# Altium integrated library ST Interface Line Transceiver.IntLib: 81 symbols (part 2 of 2)
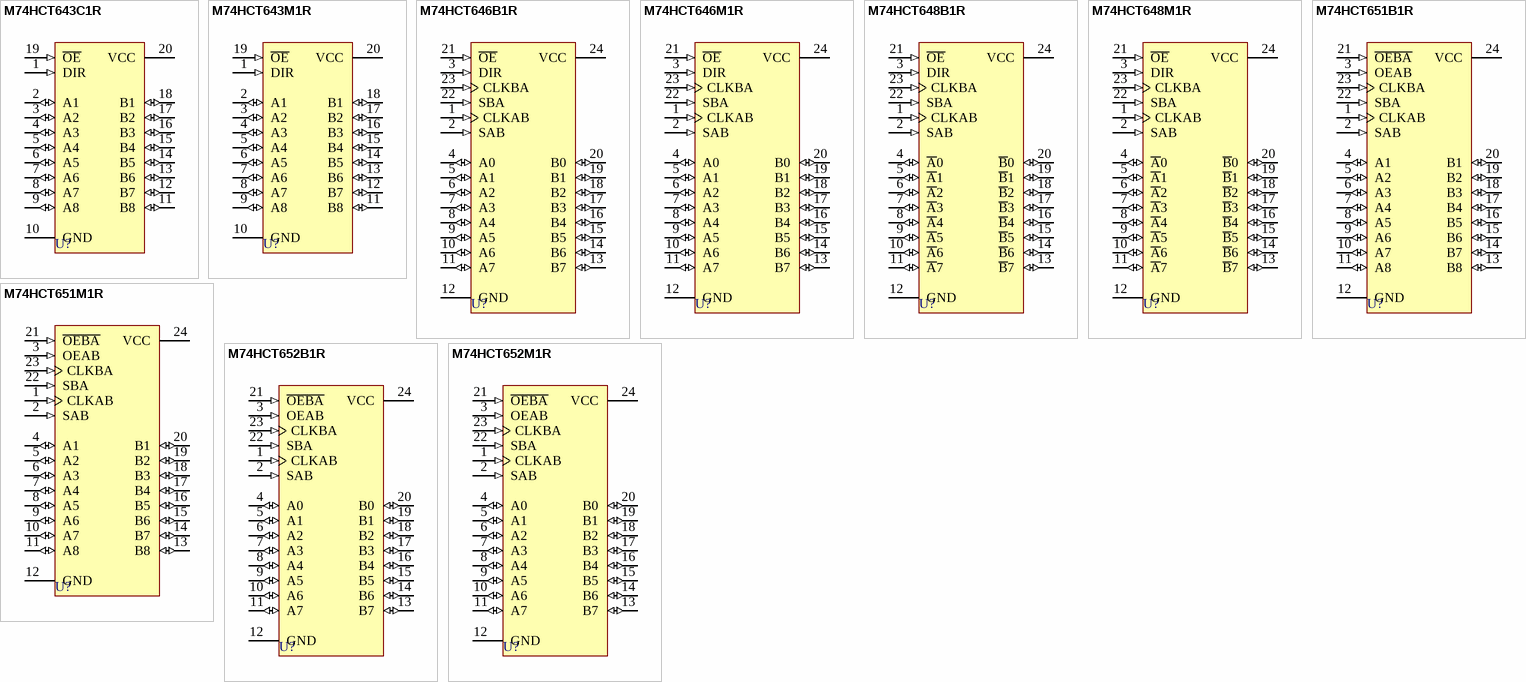
[diagram p3: symbols M74HCT643C1R to M74HCT652M1R]

## M74HCT646M1R
designator U?
Octal Bus Transceiver/Register 3-State; Published: 8-Jun-2000; LatestRevisionDate: 17-Jul-2002; LatestRevisionNote: Re-released for DXP Platform.; DatasheetDocument: Oct-1993; PackageDocument: Oct-2001; PackageReference: SO24; Publisher: Altium Limited; Code_IPC: SO24W
footprint SO24 (Small Outline, Plastic; 24 Leads; Body Width 7.5 mm; Pitch 1.27 mm)
signal-integrity model M74HCT646M1R
pins: 1 CLKAB (in), 2 SAB (in), 3 DIR (in), 4 A0 (io), 5 A1 (io), 6 A2 (io), 7 A3 (io), 8 A4 (io), 9 A5 (io), 10 A6 (io), 11 A7 (io), 12 GND (power), 13 B7 (io), 14 B6 (io), 15 B5 (io), 16 B4 (io), 17 B3 (io), 18 B2 (io), 19 B1 (io), 20 B0 (io), 21 ~{OE} (in), 22 SBA (in), 23 CLKBA (in), 24 VCC (power)

## M74HCT648B1R
designator U?
Octal Bus Transceiver/Register 3-State Inverting; Published: 8-Jun-2000; LatestRevisionDate: 17-Jul-2002; LatestRevisionNote: Re-released for DXP Platform.; DatasheetDocument: Oct-1993; PackageDocument: Jan-1995; PackageReference: PDIP24; Publisher: Altium Limited
footprint PDIP24 (DIP; 24 Leads; Row Spacing 15.24 mm; Pitch 2.54 mm)
signal-integrity model M74HCT648B1R
pins: 1 CLKAB (in), 2 SAB (in), 3 DIR (in), 4 ~{A}0 (io), 5 ~{A}1 (io), 6 ~{A}2 (io), 7 ~{A}3 (io), 8 ~{A}4 (io), 9 ~{A}5 (io), 10 ~{A}6 (io), 11 ~{A}7 (io), 12 GND (power), 13 ~{B}7 (io), 14 ~{B}6 (io), 15 ~{B}5 (io), 16 ~{B}4 (io), 17 ~{B}3 (io), 18 ~{B}2 (io), 19 ~{B}1 (io), 20 ~{B}0 (io), 21 ~{OE} (in), 22 SBA (in), 23 CLKBA (in), 24 VCC (power)

## M74HCT648M1R
designator U?
Octal Bus Transceiver/Register 3-State Inverting; Published: 8-Jun-2000; LatestRevisionDate: 17-Jul-2002; LatestRevisionNote: Re-released for DXP Platform.; DatasheetDocument: Oct-1993; PackageDocument: Oct-2001; PackageReference: SO24; Publisher: Altium Limited; Code_IPC: SO24W
footprint SO24 (Small Outline, Plastic; 24 Leads; Body Width 7.5 mm; Pitch 1.27 mm)
signal-integrity model M74HCT648M1R
pins: 1 CLKAB (in), 2 SAB (in), 3 DIR (in), 4 ~{A}0 (io), 5 ~{A}1 (io), 6 ~{A}2 (io), 7 ~{A}3 (io), 8 ~{A}4 (io), 9 ~{A}5 (io), 10 ~{A}6 (io), 11 ~{A}7 (io), 12 GND (power), 13 ~{B}7 (io), 14 ~{B}6 (io), 15 ~{B}5 (io), 16 ~{B}4 (io), 17 ~{B}3 (io), 18 ~{B}2 (io), 19 ~{B}1 (io), 20 ~{B}0 (io), 21 ~{OE} (in), 22 SBA (in), 23 CLKBA (in), 24 VCC (power)

## M74HCT651B1R
designator U?
Octal Bus Transceiver/Register 3-State Inverting; Published: 8-Jun-2000; LatestRevisionDate: 17-Jul-2002; LatestRevisionNote: Re-released for DXP Platform.; DatasheetDocument: Oct-1993; PackageDocument: Jan-1995; PackageReference: PDIP24; Publisher: Altium Limited
footprint PDIP24 (DIP; 24 Leads; Row Spacing 15.24 mm; Pitch 2.54 mm)
signal-integrity model M74HCT651B1R
pins: 1 CLKAB (in), 2 SAB (in), 3 OEAB (in), 4 A1 (io), 5 A2 (io), 6 A3 (io), 7 A4 (io), 8 A5 (io), 9 A6 (io), 10 A7 (io), 11 A8 (io), 12 GND (power), 13 B8 (io), 14 B7 (io), 15 B6 (io), 16 B5 (io), 17 B4 (io), 18 B3 (io), 19 B2 (io), 20 B1 (io), 21 ~{OEBA} (in), 22 SBA (in), 23 CLKBA (in), 24 VCC (power)

## M74HCT651M1R
designator U?
Octal Bus Transceiver/Register 3-State Inverting; Published: 8-Jun-2000; LatestRevisionDate: 17-Jul-2002; LatestRevisionNote: Re-released for DXP Platform.; DatasheetDocument: Oct-1993; PackageDocument: Oct-2001; PackageReference: SO24; Publisher: Altium Limited; Code_IPC: SO24W
footprint SO24 (Small Outline, Plastic; 24 Leads; Body Width 7.5 mm; Pitch 1.27 mm)
signal-integrity model M74HCT651M1R
pins: 1 CLKAB (in), 2 SAB (in), 3 OEAB (in), 4 A1 (io), 5 A2 (io), 6 A3 (io), 7 A4 (io), 8 A5 (io), 9 A6 (io), 10 A7 (io), 11 A8 (io), 12 GND (power), 13 B8 (io), 14 B7 (io), 15 B6 (io), 16 B5 (io), 17 B4 (io), 18 B3 (io), 19 B2 (io), 20 B1 (io), 21 ~{OEBA} (in), 22 SBA (in), 23 CLKBA (in), 24 VCC (power)

## M74HCT652B1R
designator U?
Octal Bus Transceiver/Register 3-State; Published: 8-Jun-2000; LatestRevisionDate: 17-Jul-2002; LatestRevisionNote: Re-released for DXP Platform.; DatasheetDocument: Oct-1993; PackageDocument: Jan-1995; PackageReference: PDIP24; Publisher: Altium Limited
footprint PDIP24 (DIP; 24 Leads; Row Spacing 15.24 mm; Pitch 2.54 mm)
signal-integrity model M74HCT652B1R
pins: 1 CLKAB (in), 2 SAB (in), 3 OEAB (in), 4 A0 (io), 5 A1 (io), 6 A2 (io), 7 A3 (io), 8 A4 (io), 9 A5 (io), 10 A6 (io), 11 A7 (io), 12 GND (power), 13 B7 (io), 14 B6 (io), 15 B5 (io), 16 B4 (io), 17 B3 (io), 18 B2 (io), 19 B1 (io), 20 B0 (io), 21 ~{OEBA} (in), 22 SBA (in), 23 CLKBA (in), 24 VCC (power)

## M74HCT652M1R
designator U?
Octal Bus Transceiver/Register 3-State; Published: 8-Jun-2000; LatestRevisionDate: 17-Jul-2002; LatestRevisionNote: Re-released for DXP Platform.; DatasheetDocument: Oct-1993; PackageDocument: Oct-2001; PackageReference: SO24; Publisher: Altium Limited; Code_IPC: SO24W
footprint SO24 (Small Outline, Plastic; 24 Leads; Body Width 7.5 mm; Pitch 1.27 mm)
signal-integrity model M74HCT652M1R
pins: 1 CLKAB (in), 2 SAB (in), 3 OEAB (in), 4 A0 (io), 5 A1 (io), 6 A2 (io), 7 A3 (io), 8 A4 (io), 9 A5 (io), 10 A6 (io), 11 A7 (io), 12 GND (power), 13 B7 (io), 14 B6 (io), 15 B5 (io), 16 B4 (io), 17 B3 (io), 18 B2 (io), 19 B1 (io), 20 B0 (io), 21 ~{OEBA} (in), 22 SBA (in), 23 CLKBA (in), 24 VCC (power)